# EAGLE library part ISL83485 (library intersil)
3.3V, Low Power, High Speed or Slew Rate Limited, RS-485/RS-422 Transceivers
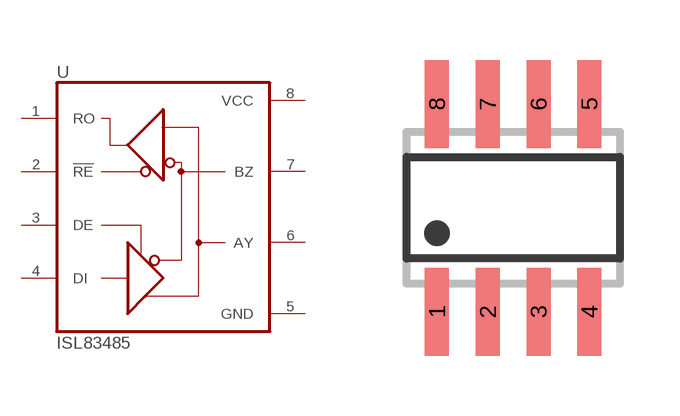
[diagram p7: symbol with the pads of SO08; footprint SO08]

Designator prefix U

## ISL83485M  [SO08]
1  RO  out
2  !RE!  in
3  DE  in
4  DI  in
5  GND  pwr
6  AY
7  BZ
8  VCC  pwr

## Footprint SO08 (pad centres in mm)
SMALL OUTLINE INTEGRATED CIRCUIT body 3.9 mm/JEDEC MS-012AA
smd 0.6 x 2.2: 1 -1.905,-2.6; 2 -0.635,-2.6; 3 0.635,-2.6; 4 1.905,-2.6; 5 1.905,2.6; 6 0.635,2.6; 7 -0.635,2.6; 8 -1.905,2.6